# Altium footprint library Analog_Project_pcblib.PrjPcb.PcbLib: 46 footprints (part 2 of 3)
Each footprint in its own frame and in the unit in brackets; x right, y up, seen from the top. Pads: shape width x height; smd on the part's side, far side on the other; paste and mask are expansions set on the pad; w line width, h text height; cw(c..) or ccw(c..) is an arc to the next point about the centre after c.
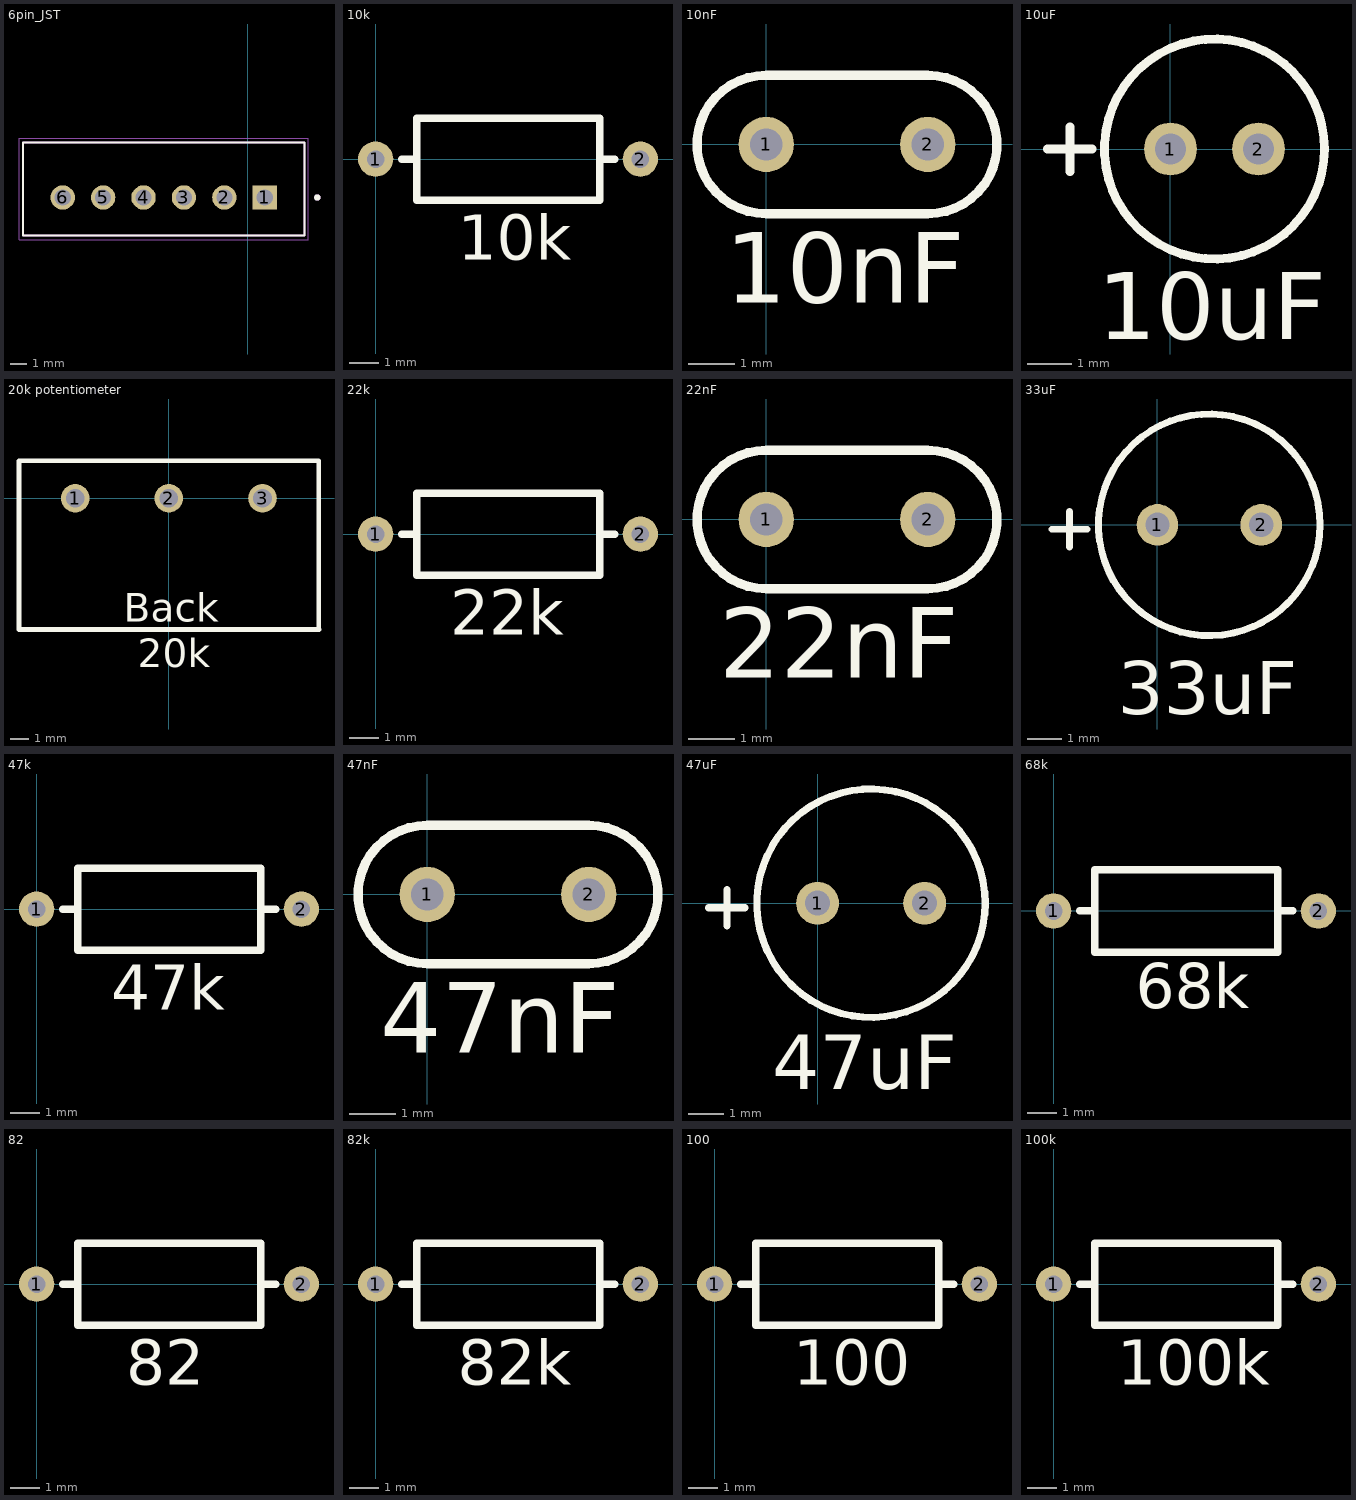
[diagram p1: the footprints below, top view; thin cyan lines are the x and y axes]

## 6pin_JST [mm]
pads (6):
  rect 1.508x1.508 / inner round 1.508 / far side rect 1.508x1.508 hole 1: 1(1.043,-85.742)
  round 1.508 hole 1: 2(-1.457,-85.742) 3(-3.957,-85.742) 4(-6.457,-85.742) 5(-8.957,-85.742) 6(-11.457,-85.742)
Top Overlay:
  circle w0.2: c4.293,-85.742 r0.1
  lines w0.127: -13.907,-88.092 3.493,-88.092 3.493,-82.342 -13.907,-82.342 -13.907,-88.092
Mechanical 13:
  circle w0.2: c4.293,-85.742 r0.1
  lines w0.127: -13.907,-88.092 3.493,-88.092 3.493,-82.342 -13.907,-82.342 -13.907,-88.092
Mechanical 15:
  lines w0.05: -14.157,-88.342 3.743,-88.342 3.743,-82.092 -14.157,-82.092 -14.157,-88.342
3D body "step_temp.STEP": height 7, standoff -3.4, extent -13.907,-88.092 3.493,-82.342

## 10k [mm]
pads (2):
  round 1.2 hole 0.6: 1(0,0) 2(9,0)
Top Overlay:
  lines w0.254: 0.889,0 1.397,0 ; 7.62,0 8.128,0 ; 1.397,0 1.397,-1.397 7.62,-1.397 7.62,1.397 1.397,1.397 1.397,0
  text "10k" at 2.794,-3.429 h1.52

## 10nF [mm]
pads (2):
  round 1.2 hole 0.7: 1(0,0) 2(3.5,0)
Top Overlay:
  lines w0.2: 0,-1.5 cw(c0,0) 0,1.5 3.5,1.5 cw(c3.5,0) 3.5,-1.5 0,-1.5
  text "10nF" at -0.889,-3.429 h1.52

## 10uF [mm]
height 10
pads (2):
  round 1.2 hole 0.7: 1(0,0) 2(2,0)
Top Overlay:
  circle w0.2: c1,0 r2.5
  lines w0.2: -2.794,0 -1.778,0 ; -2.286,-0.508 -2.286,0.508
  text "10uF" at -1.651,-4.318 h1.52

## 20k potentiometer [mil]
pads (3):
  round 60 hole 39.37: 1(-196.85,0) 2(0,0) 3(196.85,0)
Top Overlay:
  lines w10: 314.96,-275.59 314.96,78.74 -314.96,78.74 -314.96,-275.59 315.59,-275.59
  text "Back" at -95,-260 h60
  text "20k" at -65,-355 h60

## 22k [mm]
pads (2):
  round 1.2 hole 0.6: 1(0,0) 2(9,0)
Top Overlay:
  lines w0.254: 0.889,0 1.397,0 ; 7.62,0 8.128,0 ; 1.397,0 1.397,-1.397 7.62,-1.397 7.62,1.397 1.397,1.397 1.397,0
  text "22k" at 2.54,-3.429 h1.52

## 22nF [mm]
pads (2):
  round 1.2 hole 0.7: 1(0,0) 2(3.5,0)
Top Overlay:
  lines w0.2: 0,-1.5 cw(c0,0) 0,1.5 3.5,1.5 cw(c3.5,0) 3.5,-1.5 0,-1.5
  text "22nF" at -1.016,-3.429 h1.52

## 33uF [mm]
pads (2):
  round 1.2 hole 0.7: 1(0,0) 2(3,0)
Top Overlay:
  circle w0.2: c1.5,0 r3.2
  lines w0.2: -3.048,-0.127 -2.032,-0.127 ; -2.54,-0.635 -2.54,0.381
  text "33uF" at -1.143,-5.461 h1.52

## 47k [mm]
pads (2):
  round 1.2 hole 0.6: 1(0,0) 2(9,0)
Top Overlay:
  lines w0.254: 0.889,0 1.397,0 ; 7.62,0 8.128,0 ; 1.397,0 1.397,-1.397 7.62,-1.397 7.62,1.397 1.397,1.397 1.397,0
  text "47k" at 2.54,-3.429 h1.52

## 47nF [mm]
pads (2):
  round 1.2 hole 0.7: 1(0,0) 2(3.5,0)
Top Overlay:
  lines w0.2: 0,-1.5 cw(c0,0) 0,1.5 3.5,1.5 cw(c3.5,0) 3.5,-1.5 0,-1.5
  text "47nF" at -1.016,-3.429 h1.52

## 47uF [mm]
pads (2):
  round 1.2 hole 0.7: 1(0,0) 2(3,0)
Top Overlay:
  circle w0.2: c1.5,0 r3.2
  lines w0.2: -3.048,-0.127 -2.032,-0.127 ; -2.54,-0.635 -2.54,0.381
  text "47uF" at -1.27,-5.207 h1.52

## 68k [mm]
pads (2):
  round 1.2 hole 0.6: 1(0,0) 2(9,0)
Top Overlay:
  lines w0.254: 0.889,0 1.397,0 ; 7.62,0 8.128,0 ; 1.397,0 1.397,1.397 7.62,1.397 7.62,-1.397 1.397,-1.397 1.397,0
  text "68k" at 2.794,-3.302 h1.52

## 82 [mm]
pads (2):
  round 1.2 hole 0.6: 1(0,0) 2(9,0)
Top Overlay:
  lines w0.254: 0.889,0 1.397,0 ; 7.62,0 8.128,0 ; 1.397,0 1.397,1.397 7.62,1.397 7.62,-1.397 1.397,-1.397 1.397,0
  text "82" at 3.048,-3.429 h1.52

## 82k [mm]
pads (2):
  round 1.2 hole 0.6: 1(0,0) 2(9,0)
Top Overlay:
  lines w0.254: 0.889,0 1.397,0 ; 7.62,0 8.128,0 ; 1.397,0 1.397,1.397 7.62,1.397 7.62,-1.397 1.397,-1.397 1.397,0
  text "82k" at 2.794,-3.429 h1.52

## 100 [mm]
pads (2):
  round 1.2 hole 0.6: 1(0,0) 2(9,0)
Top Overlay:
  lines w0.254: 0.889,0 1.397,0 ; 7.62,0 8.128,0 ; 1.397,0 1.397,1.397 7.62,1.397 7.62,-1.397 1.397,-1.397 1.397,0
  text "100" at 2.667,-3.429 h1.52

## 100k [mm]
pads (2):
  round 1.2 hole 0.6: 1(0,0) 2(9,0)
Top Overlay:
  lines w0.254: 0.889,0 1.397,0 ; 7.62,0 8.128,0 ; 1.397,0 1.397,1.397 7.62,1.397 7.62,-1.397 1.397,-1.397 1.397,0
  text "100k" at 2.159,-3.429 h1.52